# Altium footprint library DFN12LD 3x4.PcbLib: 1 footprints
Each footprint in its own frame and in the unit in brackets; x right, y up, seen from the top. Pads: shape width x height; smd on the part's side, far side on the other; paste and mask are expansions set on the pad; w line width, h text height; cw(c..) or ccw(c..) is an arc to the next point about the centre after c.
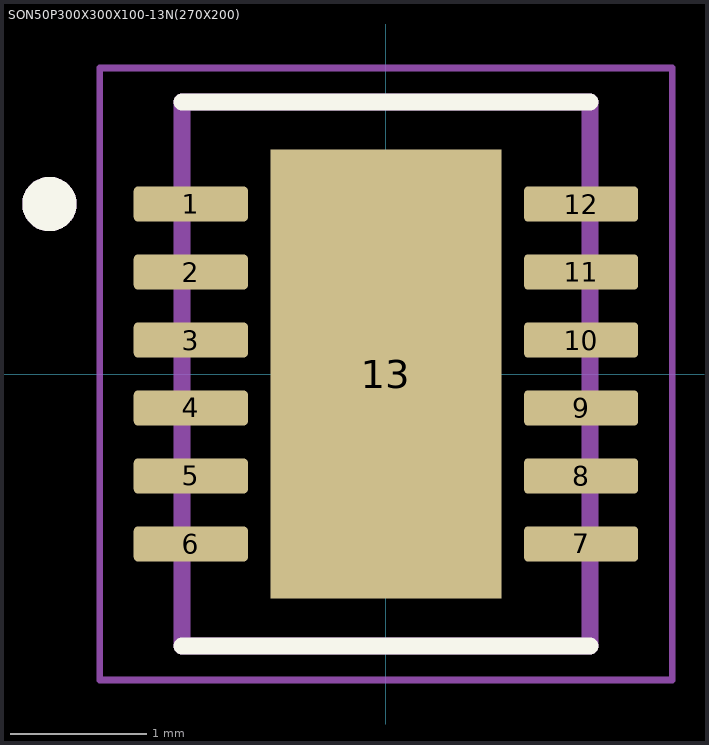
[diagram p0: the footprint, top view; thin cyan lines are the x and y axes]

## SON50P300X300X100-13N(270X200) [mm]
pads (13):
  rrect25% 0.84x0.26 smd: 1(-1.435,1.25) 2(-1.435,0.75) 3(-1.435,0.25) 4(-1.435,-0.25) 5(-1.435,-0.75) 6(-1.435,-1.25) 7(1.435,-1.25) 8(1.435,-0.75) 9(1.435,-0.25) 10(1.435,0.25) 11(1.435,0.75) 12(1.435,1.25)
  rect 1.7x3.3 smd paste-3: 13(0,0)
Top Overlay:
  circle w0.2: c-2.475,1.25 r0.1
  lines w0.127: -1.5,-2 1.5,-2 ; -1.5,2 1.5,2
Top Paste:
  region: 0.54,-1.04 -0.54,-1.04 -0.54,1.04 0.54,1.04
Top Solder:
  rectangle: -1.956,-1.499 1.956,1.504
Mechanical 13:
  circle w0.2: c-2.475,1.25 r0.1
  lines w0.127: -1.5,-2 -1.5,2 1.5,2 1.5,-2 -1.5,-2
Mechanical 15:
  lines w0.05: -2.105,-2.25 -2.105,2.25 2.105,2.25 2.105,-2.25 -2.105,-2.25
3D body "DFN12_4X3_INR.step": height 0.99, standoff 0, extent -1.499,-2.007 1.499,2.007